# Altium footprint library PcbLibIСONNECTOR.PcbLib: 37 footprints (part 2 of 3)
Each footprint in its own frame and in the unit in brackets; x right, y up, seen from the top. Pads: shape width x height; smd on the part's side, far side on the other; paste and mask are expansions set on the pad; w line width, h text height; cw(c..) or ccw(c..) is an arc to the next point about the centre after c.
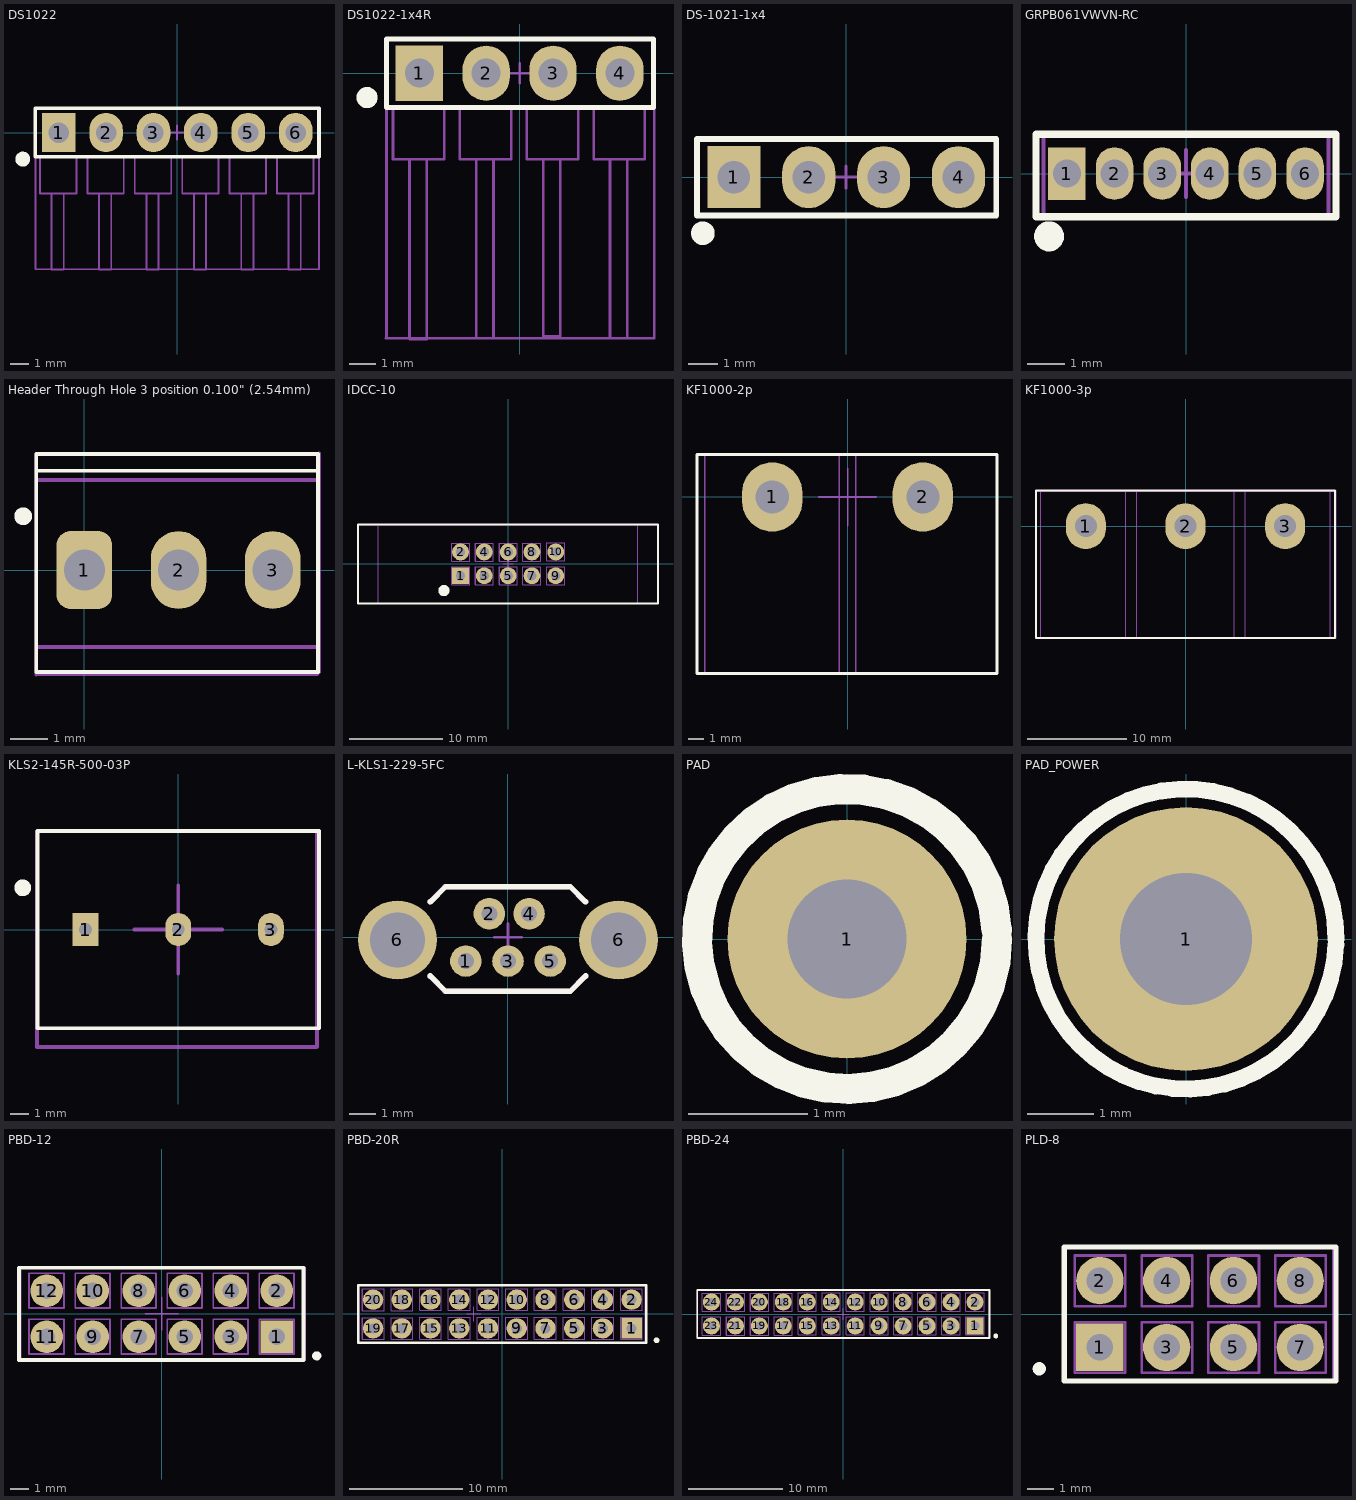
[diagram p1: the footprints below, top view; thin cyan lines are the x and y axes]

## DS1022 [mm] "Вилка штыревая 2.54мм 1x6"
pads (6):
  rect 1.8x2.1 hole 1.1: 1(-6.35,0)
  oval 1.8x2.1 hole 1.1: 2(-3.81,0) 3(-1.27,0) 4(1.27,0) 5(3.81,0) 6(6.35,0)
Top Overlay:
  circle w0.4: c-8.275,-1.425 r0.2
  lines w0.2: -7.6,-1.3 -7.6,1.3 7.6,1.3 7.6,-1.3 -7.6,-1.3
TopAssy:
  circle w0.1: c6.3,0 r0.6
  circle w0.1: c3.76,0 r0.6
  circle w0.1: c1.22,0 r0.6
  circle w0.1: c-1.32,0 r0.6
  circle w0.1: c-3.86,0 r0.6
  circle w0.1: c-6.4,0 r0.6
  lines w0.1: -7.35,-1.3 -7.35,-3.275 -5.4,-3.275 -5.4,-1.3 ; -6.725,-3.275 -6.725,-7.35 -6.075,-7.35 -6.075,-3.275 ; -4.81,-1.3 -4.81,-3.275 -2.86,-3.275 -2.86,-1.3 ; -4.185,-3.275 -4.185,-7.35 -3.535,-7.35 -3.535,-3.275 ; -2.27,-1.3 -2.27,-3.275 -0.32,-3.275 -0.32,-1.3 ; -1.645,-3.275 -1.645,-7.35 -0.995,-7.35 -0.995,-3.275 ; 0.27,-1.3 0.27,-3.275 2.22,-3.275 2.22,-1.3 ; 0.895,-3.275 0.895,-7.35 1.545,-7.35 1.545,-3.275 ; 2.81,-1.3 2.81,-3.275 4.76,-3.275 4.76,-1.3 ; 3.435,-3.275 3.435,-7.35 4.085,-7.35 4.085,-3.275 ; 5.35,-1.3 5.35,-3.275 7.3,-3.275 7.3,-1.3 ; 5.975,-3.275 5.975,-7.35 6.625,-7.35 6.625,-3.275 ; -7.6,-1.3 7.6,-1.3 7.6,1.3 -7.6,1.3 -7.6,-1.3
Inside:
  lines w0.1: -0.375,0 0,0 ; 0,-0.375 0,0 ; 0,0.375 0,0 ; 0.375,0 0,0 ; -7.6,-7.325 -6.675,-7.325 7.6,-7.325 7.6,1.3 -7.6,1.3 -7.6,-7.325
3D body "User Library-PLS-6R.step": height 6.55, standoff -3, extent -7.62,-7.375 7.62,1.245

## DS1022-1x4R [mm] "Вилка штыревая 2.54мм 1x4"
pads (4):
  rect 1.8x2.1 hole 1.1: 1(-3.81,0)
  oval 1.8x2.1 hole 1.1: 2(-1.27,0) 3(1.27,0) 4(3.81,0)
Top Overlay:
  circle w0.4: c-5.8,-0.925 r0.2
  lines w0.2: -5.06,-1.3 5.09,-1.3 5.09,1.3 -5.06,1.3 -5.06,-1.3
TopAssy:
  circle w0.1: c3.76,0 r0.6
  circle w0.1: c1.22,0 r0.6
  circle w0.1: c-1.32,0 r0.6
  circle w0.1: c-3.86,0 r0.6
  lines w0.1: -4.81,-1.3 -4.81,-3.275 -2.86,-3.275 -2.86,-1.3 ; -4.185,-3.275 -4.185,-10.1 -3.535,-10.1 -3.535,-3.275 ; -2.27,-1.3 -2.27,-3.275 -0.32,-3.275 -0.32,-1.3 ; -1.645,-3.275 -1.645,-10.075 -0.995,-10.075 -0.995,-3.275 ; 0.27,-1.3 0.27,-3.275 2.22,-3.275 2.22,-1.3 ; 0.895,-3.275 0.895,-10 1.545,-10 1.545,-3.275 ; 2.81,-1.3 2.81,-3.275 4.76,-3.275 4.76,-1.3 ; 3.435,-3.275 3.435,-10.075 4.085,-10.075 4.085,-3.275 ; -5.06,-1.3 5.115,-1.3 5.115,1.3 -5.06,1.3 -5.06,-1.3
Inside:
  lines w0.1: -5.085,-10.075 -4.035,-10.075 5.09,-10.075 ; -5.06,-10.075 -5.06,1.3 5.115,1.3 5.115,-10.075 ; -0.375,0 0,0 ; 0,-0.375 0,0 ; 0,0.375 0,0 ; 0.375,0 0,0
3D body "DS1022-1x4RD61.stp": height 2.5, standoff -3, extent -5.08,-10.05 5.08,0.3

## DS-1021-1x4 [mm] "Вилка штыревая 2.54мм 1x4"
pads (4):
  rect 1.8x2.1 hole 1.1: 1(-3.81,0)
  oval 1.8x2.1 hole 1.1: 2(-1.27,0) 3(1.27,0) 4(3.81,0)
Top Overlay:
  circle w0.4: c-4.86,-1.9 r0.2
  lines w0.2: -5.06,-1.3 -5.06,1.3 5.09,1.3 5.09,-1.3 -5.06,-1.3
TopAssy:
  circle w0.1: c-3.86,0 r0.6
  circle w0.1: c-1.32,0 r0.6
  circle w0.1: c1.22,0 r0.6
  circle w0.1: c3.76,0 r0.6
  lines w0.1: -5.06,-1.3 -5.06,1.3 5.115,1.3 5.115,-1.3 -5.06,-1.3
Inside:
  lines w0.1: -0.375,0 0,0 ; 0,-0.375 0,0 ; 0,0.375 0,0 ; 0.375,0 0,0 ; -5.06,-1.275 -5.06,1.3 5.115,1.3 5.115,-1.275 -4.01,-1.275 -5.06,-1.275
3D body "DS1021-1x4S61.stp": height 8.6, standoff -3, extent -5.08,-1.29 5.08,1.25

## GRPB061VWVN-RC [mm] "Connector Header Through Hole 6 position 0.050\" (1.27mm)"
pads (6):
  rect 1x1.4 hole 0.75: 1(-3.175,0)
  oval 1x1.4 hole 0.75: 2(-1.905,0) 3(-0.635,0) 4(0.635,0) 5(1.905,0) 6(3.175,0)
Top Overlay:
  circle w0.4: c-3.65,-1.675 r0.2
  lines w0.2: -4,-1.15 4,-1.15 4,1.05 -4,1.05 -4,-1.15
TopAssy:
  lines w0.1: -3.8,-1.15 3.8,-1.15 3.8,-0.6 3.8,1.05 -3.8,1.05 -3.8,-1.15
Inside:
  circle w0.1: c3.175,0 r0.35
  circle w0.1: c1.905,0 r0.35
  circle w0.1: c0.635,0 r0.35
  circle w0.1: c-0.635,0 r0.35
  circle w0.1: c-1.9,0 r0.35
  circle w0.1: c-3.175,0 r0.35
  lines w0.1: -0.625,0 0,0 ; 0,-0.625 0,0 ; 0,0.625 0,0 ; 0.625,0 0,0 ; -4,-1.15 -4,1.05 4,1.05 4,-1.15 -4,-1.15
3D body "GRPB061VWVN-RC.STEP": height 4, standoff -2.3, extent -3.81,-1.1 3.81,1.04

## Header Through Hole 3 position 0.100" (2.54mm) [mm]
pads (3):
  rrect50% 1.5x2.1 hole 1.1: 1(0,0)
  oval 1.5x2.1 hole 1.1: 2(2.54,0) 3(5.08,0)
Top Overlay:
  circle w0.254: c-1.65,1.45 r0.112
  lines w0.1: -1.3,2.675 6.3,2.675 ; -1.3,-2.75 -1.3,3.125 6.3,3.125 6.3,-2.75 -1.3,-2.75
TopAssy:
  lines w0.1: -1.3,-2.075 6.3,-2.075 ; -1.3,2.425 6.3,2.425 6.3,2.4 ; -1.3,-2.775 6.3,-2.775 6.3,3.125 -1.3,3.125 -1.3,-2.775
Inside:
  lines w0.1: 2.113,0 2.987,0 ; 2.55,-0.425 2.55,0.45 ; -1.3,-2.825 -1.3,3.125 6.3,3.125 6.325,3.15 6.325,-2.75 6.275,-2.8 -1.275,-2.8 -1.3,-2.825
Size:
  lines w0.1: -1.3,-2.775 -1.3,3.125 6.3,3.125 6.3,-2.775 -1.3,-2.775
3D body "c-640456-3-aa-3d.stp": height 10.09, standoff -3.5, extent -1.285,-2.725 6.335,3.117

## IDCC-10 [mm] "32mmx8mm"
height 30
pads (10):
  rect 1.8x1.8 hole 1: 1(-5.08,-1.27)
  round 1.8 hole 1: 2(-5.08,1.27) 3(-2.54,-1.27) 4(-2.54,1.27) 5(0,-1.27) 6(0,1.27) 7(2.54,-1.27) 8(2.54,1.27) 9(5.08,-1.27) 10(5.08,1.27)
Top Overlay:
  circle w0.6: c-6.85,-2.85 r0.3
  lines w0.2: -16.025,-4.225 -16.025,4.2 16,4.2 16,-4.225 -16.025,-4.225
TopAssy:
  circle w0.1: c5.08,-1.27 r0.631
  circle w0.1: c2.54,-1.27 r0.631
  circle w0.1: c0,-1.27 r0.631
  circle w0.1: c-2.54,-1.27 r0.631
  circle w0.1: c-5.08,-1.27 r0.631
  circle w0.1: c-5.08,1.27 r0.631
  circle w0.1: c-2.54,1.27 r0.631
  circle w0.1: c0,1.27 r0.631
  circle w0.1: c2.54,1.27 r0.631
  circle w0.1: c5.08,1.27 r0.631
  lines w0.1: -13.875,-4.2 -13.875,4.2 ; 13.825,-4.2 13.825,4.2 ; -3.495,-2.24 -1.57,-2.24 ; -3.495,-2.24 -3.495,-0.315 ; -3.495,-2.24 -3.495,-0.315 ; -3.495,-2.24 -1.57,-2.24 ; -3.495,-0.315 -1.57,-0.315 ; -3.495,-0.315 -1.57,-0.315 ; -3.495,0.3 -1.57,0.3 ; -3.495,0.3 -3.495,2.225 ; -3.495,0.3 -3.495,2.225 ; -3.495,0.3 -1.57,0.3 ; -3.495,2.225 -1.57,2.225 ; -3.495,2.225 -1.57,2.225 ; -1.57,-2.24 -1.57,-0.315 ; -1.57,-2.24 -1.57,-0.315 ; -1.57,0.3 -1.57,2.225 ; -1.57,0.3 -1.57,2.225 ; -0.955,-2.24 -0.955,-0.315 ; -0.955,-2.24 0.97,-2.24 ; -0.955,-2.24 -0.955,-0.315 ; -0.955,-2.24 0.97,-2.24 ; -0.955,-0.315 0.97,-0.315 ; -0.955,-0.315 0.97,-0.315 ; -0.955,0.3 -0.955,2.225 ; -0.955,0.3 0.97,0.3 ; -0.955,0.3 -0.955,2.225 ; -0.955,0.3 0.97,0.3 ; -0.955,2.225 0.97,2.225 ; -0.955,2.225 0.97,2.225 ; 0.97,-2.24 0.97,-0.315 ; 0.97,-2.24 0.97,-0.315 ; 0.97,0.3 0.97,2.225 ; 0.97,0.3 0.97,2.225 ; -16.025,-4.2 -16.025,4.2 16,4.2 16,-4.2 -16.025,-4.2 ; -6.035,-2.24 -4.11,-2.24 -4.11,-0.315 -6.035,-0.315 -6.035,-2.24 ; -6.035,0.3 -4.11,0.3 -4.11,2.225 -6.035,2.225 -6.035,0.3 ; 1.585,-2.24 1.585,-0.315 3.51,-0.315 3.51,-2.24 1.585,-2.24 ; 1.585,0.3 1.585,2.225 3.51,2.225 3.51,0.3 1.585,0.3 ; 4.11,-2.225 6.035,-2.225 6.035,-0.3 4.11,-0.3 4.11,-2.225 ; 4.11,0.315 6.035,0.315 6.035,2.24 4.11,2.24 4.11,0.315
Inside:
  lines w0.1: -0.525,0 0,0 ; 0,-0.525 0,0 ; 0,0.525 0,0 ; 0.525,0 0,0 ; -16.025,-4.225 -16.025,4.2 16,4.2 16,-4.225 -16.025,-4.225
3D body "User Library-SCM10.step": height 26.38, standoff -3.26, extent -16,-4.191 16,4.191

## KF1000-2p [mm] "3-mm x14.5mm x 14.6mm"
height 14.6
pads (2):
  oval 4x4.6 hole 2.2: 1(-5,0) 2(5,0)
Top Overlay:
  lines w0.2: -10,-11.725 4.75,-11.725 9.925,-11.725 9.925,2.825 5,2.825 -10,2.825 -10,-3.7 -10,-11.725
TopAssy:
  circle w0.1: c5,0 r1.208
  circle w0.1: c-5,0 r1.208
  lines w0.1: -9.5,-11.7 -9.5,2.825 ; -0.55,-11.7 -0.55,2.8 ; 0.55,-11.7 0.55,2.825 ; -10,-11.7 9.9,-11.7 9.9,-11.2 9.9,2.825 -10,2.825 -10,-11.7
Inside:
  lines w0.1: -1.9,0 0,0 ; 0,-1.9 0,0 ; 0,1.9 0,0 ; 1.9,0 0,0 ; -10,-11.725 9.925,-11.725 9.925,2.825 -10,2.825 -10,-11.2 -10,-11.725
3D body "KF1000_2P.STEP": height 16.6, standoff -6.7, extent -10.075,-11.725 9.925,2.775

## KF1000-3p [mm] "3-mm x14.5mm x 14.6mm"
height 14.6
pads (3):
  oval 4x4.6 hole 2.2: 1(-10,0) 2(0,0) 3(10,0)
Top Overlay:
  lines w0.2: -15,-11.2 -15,-3.7 -15,3.55 0,3.55 15,3.55 15,-3.7 15,-11.2 -0.25,-11.2 -15,-11.2
TopAssy:
  circle w0.1: c-10,0 r1.208
  circle w0.1: c10,0 r1.208
  circle w0.1: c0,0 r1.208
  lines w0.1: -14.5,-11.2 -14.5,3.5 ; -6,-11.2 -6,3.5 ; -4.9,-11.2 -4.9,3.5 ; 4.9,-11.2 4.9,3.5 ; 6,-11.2 6,3.5 ; 14.5,-11.2 14.5,3.5 ; -15,-11.2 15,-11.2 15,3.5 -15,3.5 -15,-11.2
Inside:
  lines w0.1: -1.9,0 0,0 ; 0,-1.9 0,0 ; 0,1.9 0,0 ; 1.9,0 0,0 ; -15,-11.2 -15,3.6 15.1,3.6 15.1,-11.2 -15,-11.2
3D body "KF1000-3P.STEP": height 14.6, standoff -8.7, extent -14.9,-11.15 15.1,3.35

## KLS2-145R-500-03P [mm] "15mmx14.6x15mm"
height 15
pads (3):
  rect 1.4x1.8 hole 0.7: 1(-5,0)
  oval 1.4x1.8 hole 0.7: 2(0,0) 3(5,0)
Top Overlay:
  circle w0.5: c-8.4,2.25 r0.2
  lines w0.2: -7.6,-5.325 -7.6,5.325 0,5.325 7.6,5.325 7.6,-5.325 0,-5.325 -7.6,-5.325
TopAssy:
  circle w0.1: c-5,0 r0.351
  circle w0.1: c0,0 r0.325
  circle w0.1: c5,0 r0.376
  lines w0.2: -7.625,-6.325 -7.625,5.3 -7.575,5.3 7.5,5.3 7.5,-6.325 -7.625,-6.325
Inside:
  lines w0.2: -7.6,5.3 -7.625,5.3 -7.625,-6.35 7.475,-6.35 7.475,5.3 ; -2.375,0 0,0 ; 0,-2.375 0,0 ; 0,2.375 0,0 ; 2.375,0 0,0
3D body "KLS2-145R-500-03P.STEP": height 15.1, standoff -3.9, extent -7.5,-6.325 7.5,5.325

## L-KLS1-229-5FC [mm] "гнездо mini USB B 5pin прямое (M5)"
pads (7):
  round 1.2 hole 0.6: 1(-1.6,-0.9) 2(-0.707,0.9) 3(0,-0.9) 4(0.8,0.9) 5(1.6,-0.9)
  round 3 hole 2.1: 6(-4.2,-0.1) 6(4.2,-0.1)
Top Overlay:
  lines w0.2: -2.95,-1.45 -2.95,-1.475 -2.375,-2.05 0,-2.05 2.375,-2.05 2.95,-1.475 2.95,-1.45 ; -2.95,1.35 -2.375,1.925 0,1.925 2.375,1.925 2.95,1.35
TopAssy:
  lines w0.2: -2.975,-1.475 -2.4,-2.05 -0.025,-2.05 2.35,-2.05 2.925,-1.475 ; -2.975,1.35 -2.4,1.925 -0.025,1.925 2.35,1.925 2.925,1.35
Inside:
  lines w0.1: -0.525,0 0,0 ; 0,-0.525 0,0 ; 0,0.525 0,0 ; 0.525,0 0,0
3D body "usb_a-usb_b-m5-top.stp": height 10.7, standoff -1.45, extent -5.075,-2.026 5.125,1.875

## PAD [mm] "1mm"
pads (1):
  round 2 hole 1: 1(0,0)
Top Overlay:
  lines w0.254: 1.254,0.078 ccw(c0,0) 1.256,0

## PAD_POWER [mm] "2mm"
pads (1):
  round 4 hole 2: 1(0,0)
Top Overlay:
  lines w0.254: 2.275,-0.089 cw(c0,0) 2.276,0

## PBD-12 [mm] "15.24mmx8.5mm5mm"
height 5
pads (12):
  rect 1.8x1.8 hole 0.9: 1(6.35,-1.27)
  round 1.8 hole 0.9: 2(6.35,1.27) 3(3.81,-1.27) 4(3.81,1.27) 5(1.27,-1.27) 6(1.27,1.27) 7(-1.27,-1.27) 8(-1.27,1.27) 9(-3.81,-1.27) 10(-3.81,1.27) 11(-6.35,-1.27) 12(-6.35,1.27)
Top Overlay:
  circle w0.254: c8.555,-2.325 r0.125
  lines w0.2: -7.88,-2.55 -7.88,2.55 7.825,2.55 7.825,-2.55 -7.88,-2.55
TopAssy:
  circle w0.1: c-3.81,-1.27 r0.631
  circle w0.1: c-3.81,-1.27 r0.631
  circle w0.1: c-3.81,1.27 r0.631
  circle w0.1: c-1.27,1.27 r0.631
  circle w0.1: c-1.27,-1.27 r0.631
  circle w0.1: c1.27,-1.27 r0.631
  circle w0.1: c1.27,1.27 r0.631
  circle w0.1: c6.35,1.27 r0.631
  circle w0.1: c3.81,1.27 r0.631
  circle w0.1: c3.81,-1.27 r0.631
  circle w0.1: c6.35,-1.27 r0.631
  circle w0.1: c-6.35,1.27 r0.631
  circle w0.1: c-6.35,-1.27 r0.631
  lines w0.1: -7.88,-2.575 -7.88,2.525 ; -7.88,-2.55 7.9,-2.55 7.9,2.55 -7.88,2.55 ; -7.32,-2.225 -7.32,-0.3 -5.395,-0.3 -5.395,-2.225 -7.32,-2.225 ; -7.32,0.315 -7.32,2.24 -5.395,2.24 -5.395,0.315 -7.32,0.315 ; -4.78,-2.225 -2.855,-2.225 -2.855,-0.3 -4.78,-0.3 -4.78,-2.225 ; -4.78,0.315 -2.855,0.315 -2.855,2.24 -4.78,2.24 -4.78,0.315 ; -2.24,-2.225 -0.315,-2.225 -0.315,-0.3 -2.24,-0.3 -2.24,-2.225 ; -2.24,0.315 -2.24,2.24 -0.315,2.24 -0.315,0.315 -2.24,0.315 ; 0.3,-2.225 2.225,-2.225 2.225,-0.3 0.3,-0.3 0.3,-2.225 ; 0.3,0.315 0.3,2.24 2.225,2.24 2.225,0.315 0.3,0.315 ; 2.84,-2.225 4.765,-2.225 4.765,-0.3 2.84,-0.3 2.84,-2.225 ; 2.84,0.315 2.84,2.24 4.765,2.24 4.765,0.315 2.84,0.315 ; 5.38,-2.225 5.38,-0.3 7.305,-0.3 7.305,-2.225 5.38,-2.225 ; 5.38,0.315 7.305,0.315 7.305,2.24 5.38,2.24 5.38,0.315
Inside:
  lines w0.1: -7.78,-2.575 -7.78,2.525 ; -7.78,-2.55 7.9,-2.55 7.9,2.55 -7.78,2.55 ; -0.9,0 0,0 ; 0,-0.9 0,0 ; 0,0.9 0,0 ; 0.9,0 0,0
3D body "User Library-DS1023-2x3S01.step": height 8.5, standoff -3, extent -7.86,-2.535 0.26,2.545
3D body "User Library-DS1023-2x3S01.step": height 8.5, standoff -3, extent -0.24,-2.535 7.88,2.545

## PBD-20R [mm] "50.8mmx8.5mm5mm"
height 5
pads (20):
  rect 1.8x1.8 hole 0.9: 1(11.43,-1.27)
  round 1.8 hole 0.9: 2(11.43,1.27) 3(8.89,-1.27) 4(8.89,1.27) 5(6.35,-1.27) 6(6.35,1.27) 7(3.81,-1.27) 8(3.81,1.27) 9(1.27,-1.27) 10(1.27,1.27) 11(-1.27,-1.27) 12(-1.27,1.27) 13(-3.81,-1.27) 14(-3.81,1.27) 15(-6.35,-1.27) 16(-6.35,1.27) 17(-8.89,-1.27) 18(-8.89,1.27) 19(-11.43,-1.27) 20(-11.43,1.27)
Top Overlay:
  circle w0.254: c13.635,-2.325 r0.125
  lines w0.2: -12.75,-2.55 12.725,-2.55 12.725,2.55 -12.75,2.55 -12.75,-2.55
TopAssy:
  circle w0.1: c11.43,-1.27 r0.631
  circle w0.1: c8.89,-1.27 r0.631
  circle w0.1: c8.89,1.27 r0.631
  circle w0.1: c11.43,1.27 r0.631
  circle w0.1: c6.35,1.27 r0.631
  circle w0.1: c6.35,-1.27 r0.631
  circle w0.1: c3.81,-1.27 r0.631
  circle w0.1: c3.81,1.27 r0.631
  circle w0.1: c1.27,1.27 r0.631
  circle w0.1: c1.27,-1.27 r0.631
  circle w0.1: c1.27,-1.27 r0.631
  circle w0.1: c-1.27,-1.27 r0.631
  circle w0.1: c-3.81,-1.27 r0.631
  circle w0.1: c-6.35,-1.27 r0.631
  circle w0.1: c-8.89,-1.27 r0.631
  circle w0.1: c-11.43,-1.27 r0.631
  circle w0.1: c-11.43,1.27 r0.631
  circle w0.1: c-8.89,1.27 r0.631
  circle w0.1: c-6.35,1.27 r0.631
  circle w0.1: c-3.81,1.27 r0.631
  circle w0.1: c-1.27,1.27 r0.631
  lines w0.1: -12.385,-2.24 -12.385,-0.315 ; -12.385,-2.24 -10.46,-2.24 ; -12.385,-2.24 -12.385,-0.315 ; -12.385,-2.24 -10.46,-2.24 ; -12.385,-0.315 -10.46,-0.315 ; -12.385,-0.315 -10.46,-0.315 ; -12.385,0.3 -12.385,2.225 ; -12.385,0.3 -10.46,0.3 ; -12.385,0.3 -12.385,2.225 ; -12.385,0.3 -10.46,0.3 ; -12.385,2.225 -10.46,2.225 ; -12.385,2.225 -10.46,2.225 ; -10.46,-2.24 -10.46,-0.315 ; -10.46,-2.24 -10.46,-0.315 ; -10.46,0.3 -10.46,2.225 ; -10.46,0.3 -10.46,2.225 ; -12.75,-2.55 12.65,-2.55 12.65,2.55 -12.75,2.55 -12.75,-2.55 ; -9.845,-2.24 -9.845,-0.315 -7.92,-0.315 -7.92,-2.24 -9.845,-2.24 ; -9.845,0.3 -9.845,2.225 -7.92,2.225 -7.92,0.3 -9.845,0.3 ; -7.32,-2.225 -5.395,-2.225 -5.395,-0.3 -7.32,-0.3 -7.32,-2.225 ; -7.32,0.315 -5.395,0.315 -5.395,2.24 -7.32,2.24 -7.32,0.315 ; -4.78,-2.225 -2.855,-2.225 -2.855,-0.3 -4.78,-0.3 -4.78,-2.225 ; -4.78,0.315 -2.855,0.315 -2.855,2.24 -4.78,2.24 -4.78,0.315 ; -2.24,-2.225 -0.315,-2.225 -0.315,-0.3 -2.24,-0.3 -2.24,-2.225 ; -2.24,0.315 -0.315,0.315 -0.315,2.24 -2.24,2.24 -2.24,0.315 ; 0.3,-2.225 0.3,-0.3 2.225,-0.3 2.225,-2.225 0.3,-2.225 ; 0.3,0.315 0.3,2.24 2.225,2.24 2.225,0.315 0.3,0.315 ; 2.84,-2.225 2.84,-0.3 4.765,-0.3 4.765,-2.225 2.84,-2.225 ; 2.84,0.315 4.765,0.315 4.765,2.24 2.84,2.24 2.84,0.315 ; 5.38,-2.225 5.38,-0.3 7.305,-0.3 7.305,-2.225 5.38,-2.225 ; 5.38,0.315 7.305,0.315 7.305,2.24 5.38,2.24 5.38,0.315 ; 7.92,-2.225 7.92,-0.3 9.845,-0.3 9.845,-2.225 7.92,-2.225 ; 7.92,0.315 9.845,0.315 9.845,2.24 7.92,2.24 7.92,0.315 ; 10.46,-2.225 12.385,-2.225 12.385,-0.3 10.46,-0.3 10.46,-2.225 ; 10.46,0.315 10.46,2.24 12.385,2.24 12.385,0.315 10.46,0.315
Inside:
  lines w0.1: -12.765,-2.55 12.75,-2.55 12.75,2.55 -12.65,2.55 -12.65,-2.55 ; -3.165,0 -2.54,0 ; -2.54,-0.625 -2.54,0 ; -2.54,0.625 -2.54,0 ; -1.915,0 -2.54,0
3D body "User Library-PBD-20R.STEP": height 5, standoff -3, extent -12.705,-11.435 12.695,1.565

## PBD-24 [mm]
pads (24):
  rect 1.8x1.8 hole 0.9: 1(13.97,-1.27)
  round 1.8 hole 0.9: 2(13.97,1.27) 3(11.43,-1.27) 4(11.43,1.27) 5(8.89,-1.27) 6(8.89,1.27) 7(6.35,-1.27) 8(6.35,1.27) 9(3.81,-1.27) 10(3.81,1.27) 11(1.27,-1.27) 12(1.27,1.27) 13(-1.27,-1.27) 14(-1.27,1.27) 15(-3.81,-1.27) 16(-3.81,1.27) 17(-6.35,-1.27) 18(-6.35,1.27) 19(-8.89,-1.27) 20(-8.89,1.27) 21(-11.43,-1.27) 22(-11.43,1.27) 23(-13.97,-1.27) 24(-13.97,1.27)
Top Overlay:
  circle w0.254: c16.175,-2.325 r0.125
  lines w0.2: -15.475,-2.55 15.5,-2.55 15.5,2.55 -15.475,2.55 -15.475,-2.55
TopAssy:
  circle w0.1: c1.27,1.27 r0.631
  circle w0.1: c-1.27,1.27 r0.631
  circle w0.1: c-3.81,1.27 r0.631
  circle w0.1: c-6.35,1.27 r0.631
  circle w0.1: c-8.89,1.27 r0.631
  circle w0.1: c-11.43,1.27 r0.631
  circle w0.1: c-13.97,1.27 r0.631
  circle w0.1: c-13.97,-1.27 r0.631
  circle w0.1: c-11.43,-1.27 r0.631
  circle w0.1: c-8.89,-1.27 r0.631
  circle w0.1: c-6.35,-1.27 r0.631
  circle w0.1: c-3.81,-1.27 r0.631
  circle w0.1: c-1.27,-1.27 r0.631
  circle w0.1: c1.27,-1.27 r0.631
  circle w0.1: c3.81,-1.27 r0.631
  circle w0.1: c3.81,-1.27 r0.631
  circle w0.1: c3.81,1.27 r0.631
  circle w0.1: c6.35,1.27 r0.631
  circle w0.1: c6.35,-1.27 r0.631
  circle w0.1: c8.89,-1.27 r0.631
  circle w0.1: c8.89,1.27 r0.631
  circle w0.1: c13.97,1.27 r0.631
  circle w0.1: c11.43,1.27 r0.631
  circle w0.1: c11.43,-1.27 r0.631
  circle w0.1: c13.97,-1.27 r0.631
  lines w0.1: -12.385,-2.24 -10.46,-2.24 ; -12.385,-2.24 -12.385,-0.315 ; -12.385,-2.24 -12.385,-0.315 ; -12.385,-2.24 -10.46,-2.24 ; -12.385,-0.315 -10.46,-0.315 ; -12.385,-0.315 -10.46,-0.315 ; -12.385,0.3 -10.46,0.3 ; -12.385,0.3 -12.385,2.225 ; -12.385,0.3 -12.385,2.225 ; -12.385,0.3 -10.46,0.3 ; -12.385,2.225 -10.46,2.225 ; -12.385,2.225 -10.46,2.225 ; -10.46,-2.24 -10.46,-0.315 ; -10.46,-2.24 -10.46,-0.315 ; -10.46,0.3 -10.46,2.225 ; -10.46,0.3 -10.46,2.225 ; -9.845,-2.24 -7.92,-2.24 ; -9.845,-2.24 -9.845,-0.315 ; -9.845,-2.24 -7.92,-2.24 ; -9.845,-2.24 -9.845,-0.315 ; -9.845,-0.315 -7.92,-0.315 ; -9.845,-0.315 -7.92,-0.315 ; -9.845,0.3 -7.92,0.3 ; -9.845,0.3 -9.845,2.225 ; -9.845,0.3 -7.92,0.3 ; -9.845,0.3 -9.845,2.225 ; -9.845,2.225 -7.92,2.225 ; -9.845,2.225 -7.92,2.225 ; -7.92,-2.24 -7.92,-0.315 ; -7.92,-2.24 -7.92,-0.315 ; -7.92,0.3 -7.92,2.225 ; -7.92,0.3 -7.92,2.225 ; -15.475,-2.55 -15.475,2.55 15.5,2.55 15.5,-2.55 -15.475,-2.55 ; -14.925,-2.24 -14.925,-0.315 -13,-0.315 -13,-2.24 -14.925,-2.24 ; -14.925,0.3 -14.925,2.225 -13,2.225 -13,0.3 -14.925,0.3 ; -7.305,-2.24 -5.38,-2.24 -5.38,-0.315 -7.305,-0.315 -7.305,-2.24 ; -7.305,0.3 -5.38,0.3 -5.38,2.225 -7.305,2.225 -7.305,0.3 ; -4.78,-2.225 -4.78,-0.3 -2.855,-0.3 -2.855,-2.225 -4.78,-2.225 ; -4.78,0.315 -4.78,2.24 -2.855,2.24 -2.855,0.315 -4.78,0.315 ; -2.24,-2.225 -2.24,-0.3 -0.315,-0.3 -0.315,-2.225 -2.24,-2.225 ; -2.24,0.315 -2.24,2.24 -0.315,2.24 -0.315,0.315 -2.24,0.315 ; 0.3,-2.225 0.3,-0.3 2.225,-0.3 2.225,-2.225 0.3,-2.225 ; 0.3,0.315 0.3,2.24 2.225,2.24 2.225,0.315 0.3,0.315 ; 2.84,-2.225 4.765,-2.225 4.765,-0.3 2.84,-0.3 2.84,-2.225 ; 2.84,0.315 4.765,0.315 4.765,2.24 2.84,2.24 2.84,0.315 ; 5.38,-2.225 7.305,-2.225 7.305,-0.3 5.38,-0.3 5.38,-2.225 ; 5.38,0.315 5.38,2.24 7.305,2.24 7.305,0.315 5.38,0.315 ; 7.92,-2.225 9.845,-2.225 9.845,-0.3 7.92,-0.3 7.92,-2.225 ; 7.92,0.315 7.92,2.24 9.845,2.24 9.845,0.315 7.92,0.315 ; 10.46,-2.225 12.385,-2.225 12.385,-0.3 10.46,-0.3 10.46,-2.225 ; 10.46,0.315 10.46,2.24 12.385,2.24 12.385,0.315 10.46,0.315 ; 13,-2.225 13,-0.3 14.925,-0.3 14.925,-2.225 13,-2.225 ; 13,0.315 14.925,0.315 14.925,2.24 13,2.24 13,0.315
Inside:
  lines w0.1: -0.625,0 0,0 ; 0,-0.625 0,0 ; 0,0.625 0,0 ; 0.625,0 0,0 ; -15.5,-2.55 15.5,-2.55 15.5,2.55 -15.5,2.55 -15.5,-2.55
3D body "User Library-DS1023-2x3S01.step": height 8.5, standoff -3, extent -15.48,-2.535 -7.36,2.545
3D body "User Library-DS1023-2x3S01.step": height 8.5, standoff -3, extent -7.86,-2.535 0.26,2.545
3D body "User Library-DS1023-2x3S01.step": height 8.5, standoff -3, extent -0.24,-2.535 7.88,2.545
3D body "User Library-DS1023-2x3S01.step": height 8.5, standoff -3, extent 7.38,-2.535 15.5,2.545

## PLD-8 [mm]
pads (8):
  rect 1.8x1.8 hole 1: 1(-11.43,-1.27)
  round 1.8 hole 1: 2(-11.43,1.27) 3(-8.89,-1.27) 4(-8.89,1.27) 5(-6.35,-1.27) 6(-6.35,1.27) 7(-3.81,-1.27) 8(-3.81,1.27)
Top Overlay:
  circle w0.254: c-13.735,-2.083 r0.125
  lines w0.2: -12.785,-2.55 -2.45,-2.55 -2.45,2.55 -12.785,2.55 -12.785,-2.55
TopAssy:
  circle w0.1: c-3.81,1.27 r0.631
  circle w0.1: c-6.35,1.27 r0.631
  circle w0.1: c-8.89,1.27 r0.631
  circle w0.1: c-11.43,1.27 r0.631
  circle w0.1: c-11.43,-1.27 r0.631
  circle w0.1: c-8.89,-1.27 r0.631
  circle w0.1: c-6.35,-1.27 r0.631
  circle w0.1: c-3.81,-1.27 r0.631
  lines w0.1: -9.845,-2.24 -7.92,-2.24 ; -9.845,-2.24 -9.845,-0.315 ; -9.845,-2.24 -9.845,-0.315 ; -9.845,-2.24 -7.92,-2.24 ; -9.845,-0.315 -7.92,-0.315 ; -9.845,-0.315 -7.92,-0.315 ; -9.845,0.3 -7.92,0.3 ; -9.845,0.3 -9.845,2.225 ; -9.845,0.3 -9.845,2.225 ; -9.845,0.3 -7.92,0.3 ; -9.845,2.225 -7.92,2.225 ; -9.845,2.225 -7.92,2.225 ; -7.92,-2.24 -7.92,-0.315 ; -7.92,-2.24 -7.92,-0.315 ; -7.92,0.3 -7.92,2.225 ; -7.92,0.3 -7.92,2.225 ; -7.305,-2.24 -5.38,-2.24 ; -7.305,-2.24 -7.305,-0.315 ; -7.305,-2.24 -5.38,-2.24 ; -7.305,-2.24 -7.305,-0.315 ; -7.305,-0.315 -5.38,-0.315 ; -7.305,-0.315 -5.38,-0.315 ; -7.305,0.3 -5.38,0.3 ; -7.305,0.3 -7.305,2.225 ; -7.305,0.3 -5.38,0.3 ; -7.305,0.3 -7.305,2.225 ; -7.305,2.225 -5.38,2.225 ; -7.305,2.225 -5.38,2.225 ; -5.38,-2.24 -5.38,-0.315 ; -5.38,-2.24 -5.38,-0.315 ; -5.38,0.3 -5.38,2.225 ; -5.38,0.3 -5.38,2.225 ; -12.785,-2.55 -12.785,2.55 -2.55,2.55 -2.55,-2.55 -12.785,-2.55 ; -12.385,-2.24 -12.385,-0.315 -10.46,-0.315 -10.46,-2.24 -12.385,-2.24 ; -12.385,0.3 -12.385,2.225 -10.46,2.225 -10.46,0.3 -12.385,0.3 ; -4.765,-2.24 -2.84,-2.24 -2.84,-0.315 -4.765,-0.315 -4.765,-2.24 ; -4.765,0.3 -2.84,0.3 -2.84,2.225 -4.765,2.225 -4.765,0.3
Inside:
  lines w0.1: -12.785,-2.55 -2.525,-2.55 -2.525,2.55 -12.785,2.55 -12.785,-2.55
3D body "User Library-PLS2.STEP": height 8.54, standoff -3, extent -5.115,-2.515 -2.575,2.565
3D body "User Library-PLS2.STEP": height 8.54, standoff -3, extent -7.655,-2.515 -5.115,2.565
3D body "User Library-PLS2.STEP": height 8.54, standoff -3, extent -10.195,-2.515 -7.655,2.565
3D body "User Library-PLS2.STEP": height 8.54, standoff -3, extent -12.735,-2.515 -10.195,2.565